# EAGLE library part LIPO-CHARGING (library Musafir Power Board Library)
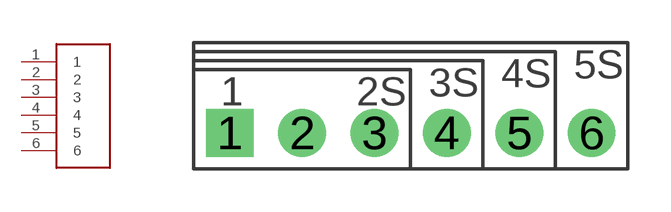
[diagram p0: symbol with the pads of CHARGING-CONN; footprint CHARGING-CONN]

Designator prefix -

## LIPO-CHARGING  [CHARGING-CONN]
1  1
2  2
3  3
4  4
5  5
6  6

## Footprint CHARGING-CONN (pad centres in mm)
drill 0.8 pad 1.676 square: 1 0,0
drill 0.8 pad 1.676: 2 2.54,0; 3 5.08,0; 4 7.62,0; 5 10.16,0; 6 12.7,0